# EAGLE library part LOGIC-4071 (library tidyeagle)
4071 Quad 2-Input OR Datasheet: Texas Instruments CD4071B <http://www.ti.com/lit/ds/symlink/cd4072b.pdf> Application Notes: Supply: 3V - 18V
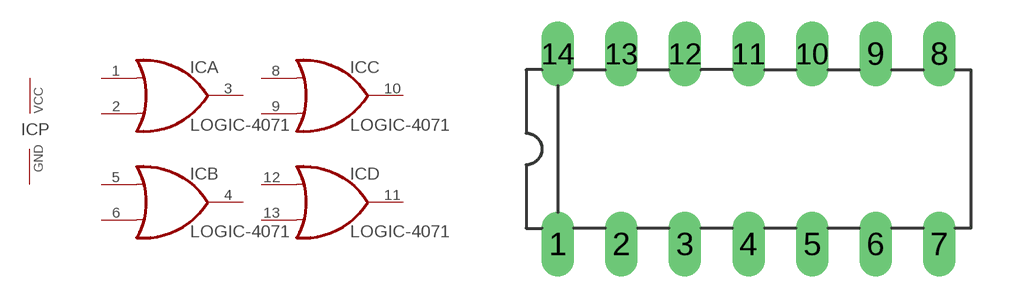
[diagram p22: symbol with the pads of DIL14-3; footprint DIL14-3]

Designator prefix IC; gates A=LOGIC-OR B=LOGIC-OR C=LOGIC-OR D=LOGIC-OR P=PWRN

## LOGIC-4071-DIL14  [DIL14-3]
1  A:I0  in
2  A:I1  in
3  A:O  out
4  B:O  out
5  B:I0  in
6  B:I1  in
7  P:GND  pwr
8  C:I0  in
9  C:I1  in
10  C:O  out
11  D:O  out
12  D:I0  in
13  D:I1  in
14  P:VCC  pwr

## Footprint DIL14-3 (pad centres in mm)
drill 0.8 long: 1 -7.62,-3.81; 2 -5.08,-3.81; 3 -2.54,-3.81; 4 0,-3.81; 5 2.54,-3.81; 6 5.08,-3.81; 7 7.62,-3.81; 8 7.62,3.81; 9 5.08,3.81; 10 2.54,3.81; 11 0,3.81; 12 -2.54,3.81; 13 -5.08,3.81; 14 -7.62,3.81